# EAGLE library part BRD_ARDZEM (library ArdDisp)
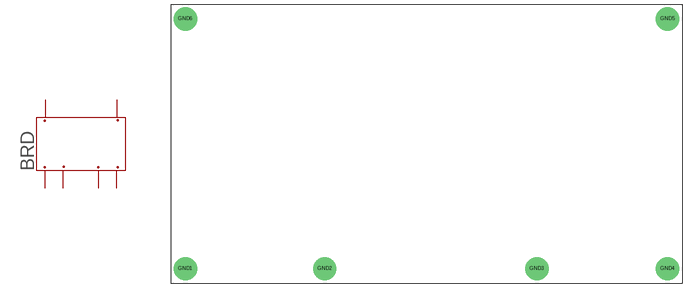
[diagram p27: symbol with the pads of BRD_ARDZEM; footprint BRD_ARDZEM]

Designator prefix BRD

## BRD_ARDZEM  [BRD_ARDZEM]
GND1  GND1
GND2  GND2
GND3  GND3
GND4  GND4
GND5  GND5
GND6  GND6

## Footprint BRD_ARDZEM (pad centres in mm)
drill 3.5 pad 8: GND1 5,5; GND2 53,5; GND3 126,5; GND4 171,5; GND5 171,91; GND6 5,91